# EAGLE library part EPM3032 (library EPM3032)
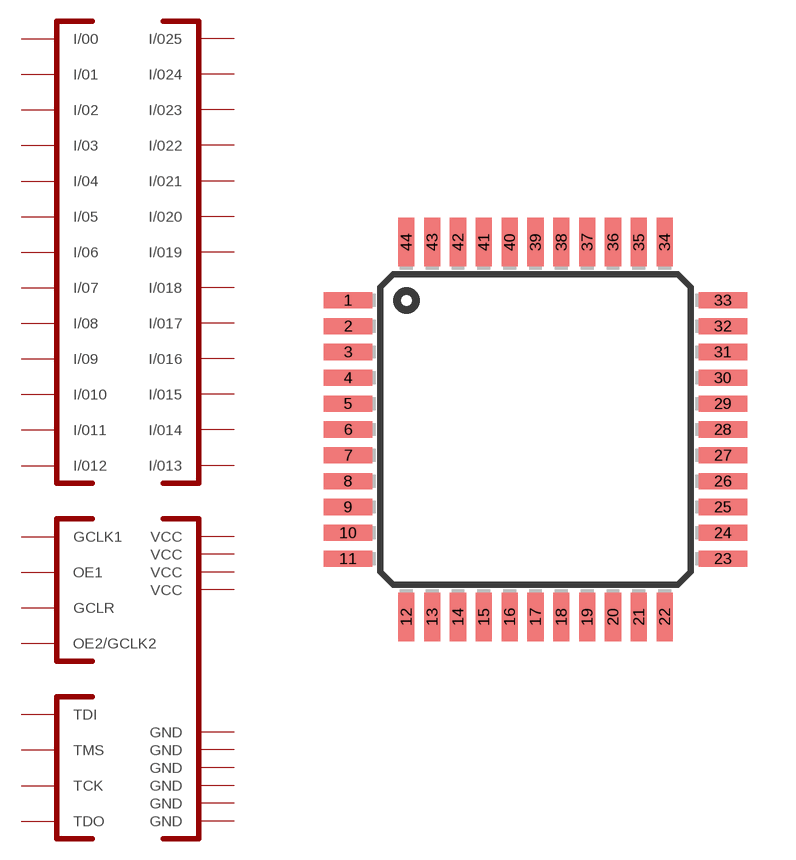
[diagram p0: symbol with the pads of TQFP44; footprint TQFP44]

Designator prefix -

## EPM3032  [TQFP44]
1  TDI  pwr
2  I/00  pwr
3  I/025  pwr
4  GND  pwr
5  I/01  pwr
6  I/02  pwr
7  TMS  pwr
8  I/022  pwr
9  VCC  pwr
10  I/024  pwr
11  GND  pwr
12  I/03  pwr
13  I/04  pwr
14  I/05  pwr
15  I/06  pwr
16  GND  pwr
17  VCC  pwr
18  I/020  pwr
19  I/021  pwr
20  I/023  pwr
21  I/016  pwr
22  I/017  pwr
23  I/018  pwr
24  GND  pwr
25  I/07  pwr
26  TCK  pwr
27  I/014  pwr
28  I/013  pwr
29  VCC  pwr
30  GND  pwr
31  I/019  pwr
32  TDO  pwr
33  I/015  pwr
34  I/012  pwr
35  I/011  pwr
36  GND  pwr
37  GCLK1  pwr
38  OE1  pwr
39  GCLR  pwr
40  OE2/GCLK2  pwr
41  VCC  pwr
42  I/010  pwr
43  I/09  pwr
44  I/08  pwr

## Footprint TQFP44 (pad centres in mm)
44-lead Thin Quad Flat Package
smd 1.5 x 0.5: 1 -5.8,4; 2 -5.8,3.2; 3 -5.8,2.4; 4 -5.8,1.6; 5 -5.8,0.8; 6 -5.8,0; 7 -5.8,-0.8; 8 -5.8,-1.6; 9 -5.8,-2.4; 10 -5.8,-3.2; 11 -5.8,-4; 23 5.8,-4; 24 5.8,-3.2; 25 5.8,-2.4; 26 5.8,-1.6; 27 5.8,-0.8; 28 5.8,0; 29 5.8,0.8; 30 5.8,1.6; 31 5.8,2.4; 32 5.8,3.2; 33 5.8,4
smd 0.5 x 1.5: 12 -4,-5.8; 13 -3.2,-5.8; 14 -2.4,-5.8; 15 -1.6,-5.8; 16 -0.8,-5.8; 17 0,-5.8; 18 0.8,-5.8; 19 1.6,-5.8; 20 2.4,-5.8; 21 3.2,-5.8; 22 4,-5.8; 34 4,5.8; 35 3.2,5.8; 36 2.4,5.8; 37 1.6,5.8; 38 0.8,5.8; 39 0,5.8; 40 -0.8,5.8; 41 -1.6,5.8; 42 -2.4,5.8; 43 -3.2,5.8; 44 -4,5.8